# EAGLE library part EA_DOGM162 (library ea_v66)
ELECTRONIC ASSEMBYL GmbH EA DOGM162-A EA DOGM081-A EA DOGM163-A
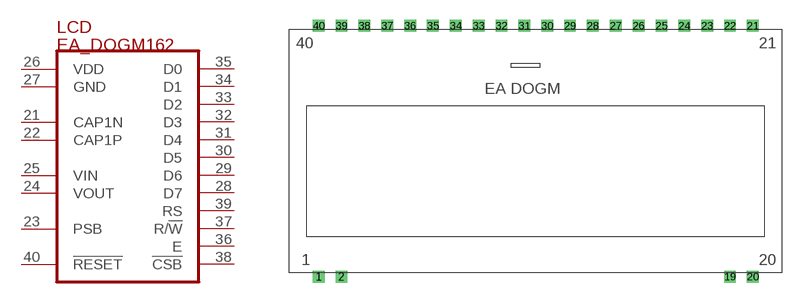
[diagram p1: symbol with the pads of EA_DOGM; footprint EA_DOGM]

Designator prefix LCD

## EA_DOGM162  [EA_DOGM]
21  CAP1N  pas
22  CAP1P  pas
23  PSB  in
24  VOUT  pas
25  VIN  pas
26  VDD  pwr
27  GND  pwr
28  D7
29  D6
30  D5
31  D4
32  D3
33  D2
34  D1
35  D0
36  E  in
37  R/!W!  in
38  !CSB!  in
39  RS  in
40  !RESET!  in

## Footprint EA_DOGM (pad centres in mm)
EA DOM081 / EA DOGM162 / EA DOGM163 Textdisplays COG inkl.Kontroller Hersteller: ELECTRONIC ASSEMBLY GmbH http://www.lcd-module.de
drill 0.813 square: 1 0,0; 2 2.54,0; 19 45.72,0; 20 48.26,0; 21 48.26,27.94; 22 45.72,27.94; 23 43.18,27.94; 24 40.64,27.94; 25 38.1,27.94; 26 35.56,27.94; 27 33.02,27.94; 28 30.48,27.94; 29 27.94,27.94; 30 25.4,27.94; 31 22.86,27.94; 32 20.32,27.94; 33 17.78,27.94; 34 15.24,27.94; 35 12.7,27.94; 36 10.16,27.94; 37 7.62,27.94; 38 5.08,27.94; 39 2.54,27.94; 40 0,27.94